# Altium integrated library STMicroelectronics STM32W.IntLib: 11 symbols
Pins are listed as number, name and electrical type; pins without a type are passive.

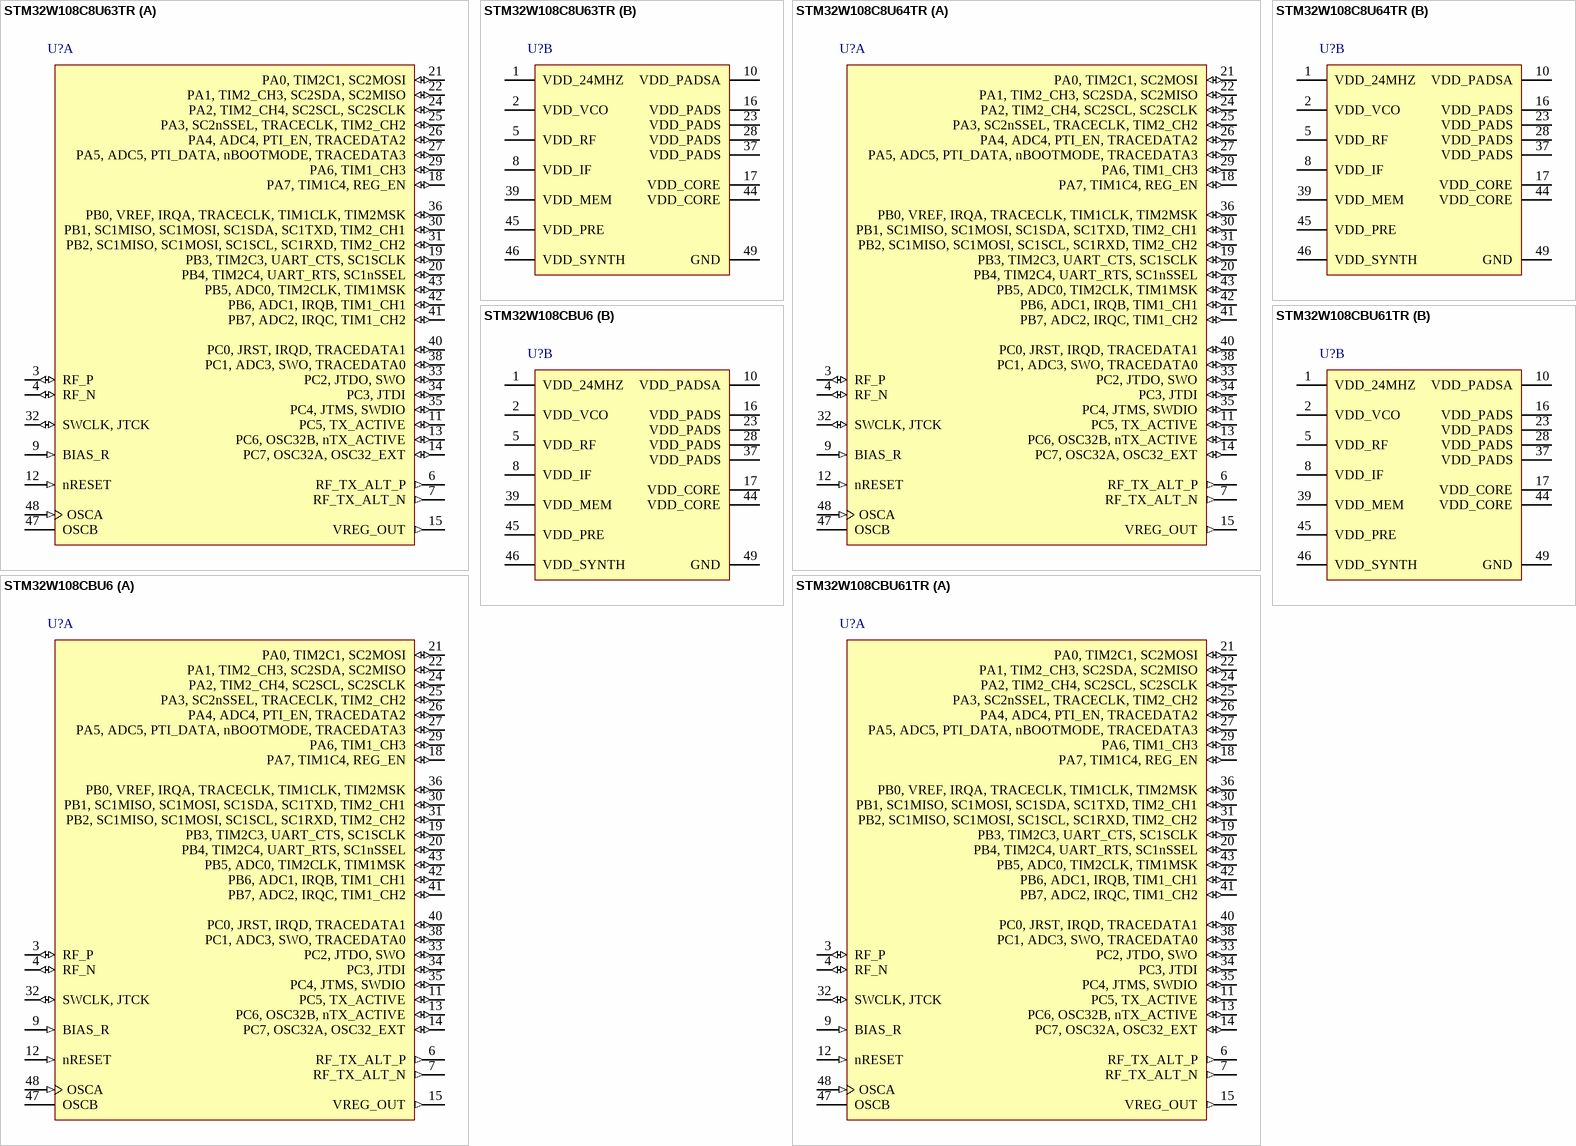
[diagram p0: symbols STM32W108C8U63TR to STM32W108CBU61TR]

## STM32W108C8U63TR
designator U?
STM32W ARM-based 32-bit RF MCU with RF4CE stack, 64 kB Flash, 8 kB Internal RAM, -40 to +85°C Temperature, 48-pin QFN, Tape and Reel; DatasheetVersion: rev1, May-2011; PackageVersion: 2011; PackageReference: VFQFPN48; PackageDescription: 48-Pin Quad Flat No-Lead, 7 x 7 x 0.9 mm Body, 0.5 mm Pitch, Exposed Pad; ComponentLink1Description: Manufacturer URL; ComponentLink1URL: http://www.st.com/; ComponentLink2Description: STM32W108C8 Datasheet; ComponentLink2URL: http://www.st.com/internet/com/TECHNICAL_RESOURCES/TECHNICAL_LITERATURE/DATASHEET/DM00024653.pdf; ComponentLink3Description: STM32W Web Page; ComponentLink3URL: http://www.st.com/internet/mcu/subclass/1377.jsp
footprint VFQFPN48_N (Manufacturer "STMicroelectronics" not found)
footprint VFQFPN48_L (QFN, 48-Leads, Body 7x7mm, Pitch 0.5mm, Thermal Pad 5.3x5.3mm, IPC High Density)
footprint VFQFPN48_M (QFN, 48-Leads, Body 7x7mm, Pitch 0.5mm, Thermal Pad 5.3x5.3mm, IPC Low Density)
part A pins: 3 RF_P (io), 4 RF_N (io), 6 RF_TX_ALT_P (out), 7 RF_TX_ALT_N (out), 9 BIAS_R (in), 11 PC5, TX_ACTIVE (io), 12 nRESET (in), 13 PC6, OSC32B, nTX_ACTIVE (io), 14 PC7, OSC32A, OSC32_EXT (io), 15 VREG_OUT (out), 18 PA7, TIM1C4, REG_EN (io), 19 PB3, TIM2C3, UART_CTS, SC1SCLK (io), 20 PB4, TIM2C4, UART_RTS, SC1nSSEL (io), 21 PA0, TIM2C1, SC2MOSI (io), 22 PA1, TIM2_CH3, SC2SDA, SC2MISO (io), 24 PA2, TIM2_CH4, SC2SCL, SC2SCLK (io), 25 PA3, SC2nSSEL, TRACECLK, TIM2_CH2 (io), 26 PA4, ADC4, PTI_EN, TRACEDATA2 (io), 27 PA5, ADC5, PTI_DATA, nBOOTMODE, TRACEDATA3 (io), 29 PA6, TIM1_CH3 (io), 30 PB1, SC1MISO, SC1MOSI, SC1SDA, SC1TXD, TIM2_CH1 (io), 31 PB2, SC1MISO, SC1MOSI, SC1SCL, SC1RXD, TIM2_CH2 (io), 32 SWCLK, JTCK (io), 33 PC2, JTDO, SWO (io), 34 PC3, JTDI (io), 35 PC4, JTMS, SWDIO (io), 36 PB0, VREF, IRQA, TRACECLK, TIM1CLK, TIM2MSK (io), 38 PC1, ADC3, SWO, TRACEDATA0 (io), 40 PC0, JRST, IRQD, TRACEDATA1 (io), 41 PB7, ADC2, IRQC, TIM1_CH2 (io), 42 PB6, ADC1, IRQB, TIM1_CH1 (io), 43 PB5, ADC0, TIM2CLK, TIM1MSK (io), 47 OSCB, 48 OSCA (in)
part B pins: 1 VDD_24MHZ (power), 2 VDD_VCO (power), 5 VDD_RF (power), 8 VDD_IF (power), 10 VDD_PADSA (power), 16 VDD_PADS (power), 17 VDD_CORE (power), 23 VDD_PADS (power), 28 VDD_PADS (power), 37 VDD_PADS (power), 39 VDD_MEM (power), 44 VDD_CORE (power), 45 VDD_PRE (power), 46 VDD_SYNTH (power), 49 GND (power)

## STM32W108C8U64TR
designator U?
STM32W ARM-based 32-bit RF MCU with IEEE 802.15.4 media access control, 64 kB Flash, 8 kB Internal RAM, -40 to +85°C Temperature, 48-pin QFN, Tape and Reel; DatasheetVersion: rev1, May-2011; PackageVersion: 2011; PackageReference: VFQFPN48; PackageDescription: 48-Pin Quad Flat No-Lead, 7 x 7 x 0.9 mm Body, 0.5 mm Pitch, Exposed Pad; ComponentLink1Description: Manufacturer URL; ComponentLink1URL: http://www.st.com/; ComponentLink2Description: STM32W108C8 Datasheet; ComponentLink2URL: http://www.st.com/internet/com/TECHNICAL_RESOURCES/TECHNICAL_LITERATURE/DATASHEET/DM00024653.pdf; ComponentLink3Description: STM32W Web Page; ComponentLink3URL: http://www.st.com/internet/mcu/subclass/1377.jsp
footprint VFQFPN48_N (Manufacturer "STMicroelectronics" not found)
footprint VFQFPN48_L (QFN, 48-Leads, Body 7x7mm, Pitch 0.5mm, Thermal Pad 5.3x5.3mm, IPC High Density)
footprint VFQFPN48_M (QFN, 48-Leads, Body 7x7mm, Pitch 0.5mm, Thermal Pad 5.3x5.3mm, IPC Low Density)
part A pins: 3 RF_P (io), 4 RF_N (io), 6 RF_TX_ALT_P (out), 7 RF_TX_ALT_N (out), 9 BIAS_R (in), 11 PC5, TX_ACTIVE (io), 12 nRESET (in), 13 PC6, OSC32B, nTX_ACTIVE (io), 14 PC7, OSC32A, OSC32_EXT (io), 15 VREG_OUT (out), 18 PA7, TIM1C4, REG_EN (io), 19 PB3, TIM2C3, UART_CTS, SC1SCLK (io), 20 PB4, TIM2C4, UART_RTS, SC1nSSEL (io), 21 PA0, TIM2C1, SC2MOSI (io), 22 PA1, TIM2_CH3, SC2SDA, SC2MISO (io), 24 PA2, TIM2_CH4, SC2SCL, SC2SCLK (io), 25 PA3, SC2nSSEL, TRACECLK, TIM2_CH2 (io), 26 PA4, ADC4, PTI_EN, TRACEDATA2 (io), 27 PA5, ADC5, PTI_DATA, nBOOTMODE, TRACEDATA3 (io), 29 PA6, TIM1_CH3 (io), 30 PB1, SC1MISO, SC1MOSI, SC1SDA, SC1TXD, TIM2_CH1 (io), 31 PB2, SC1MISO, SC1MOSI, SC1SCL, SC1RXD, TIM2_CH2 (io), 32 SWCLK, JTCK (io), 33 PC2, JTDO, SWO (io), 34 PC3, JTDI (io), 35 PC4, JTMS, SWDIO (io), 36 PB0, VREF, IRQA, TRACECLK, TIM1CLK, TIM2MSK (io), 38 PC1, ADC3, SWO, TRACEDATA0 (io), 40 PC0, JRST, IRQD, TRACEDATA1 (io), 41 PB7, ADC2, IRQC, TIM1_CH2 (io), 42 PB6, ADC1, IRQB, TIM1_CH1 (io), 43 PB5, ADC0, TIM2CLK, TIM1MSK (io), 47 OSCB, 48 OSCA (in)
part B pins: 1 VDD_24MHZ (power), 2 VDD_VCO (power), 5 VDD_RF (power), 8 VDD_IF (power), 10 VDD_PADSA (power), 16 VDD_PADS (power), 17 VDD_CORE (power), 23 VDD_PADS (power), 28 VDD_PADS (power), 37 VDD_PADS (power), 39 VDD_MEM (power), 44 VDD_CORE (power), 45 VDD_PRE (power), 46 VDD_SYNTH (power), 49 GND (power)

## STM32W108CBU6
designator U?
STM32W ARM-based 32-bit RF MCU with 128 kB Flash, 8 kB Internal RAM, -40 to +85°C Temperature, 48-pin QFN, Tray; DatasheetVersion: rev8, Apr-2011; PackageVersion: 2011; PackageReference: VFQFPN48; PackageDescription: 48-Pin Quad Flat No-Lead, 7 x 7 x 0.9 mm Body, 0.5 mm Pitch, Exposed Pad; ComponentLink1Description: Manufacturer URL; ComponentLink1URL: http://www.st.com/; ComponentLink2Description: STM32W108xx Datasheet; ComponentLink2URL: http://www.st.com/internet/com/TECHNICAL_RESOURCES/TECHNICAL_LITERATURE/DATASHEET/CD00248316.pdf; ComponentLink3Description: STM32W Web Page; ComponentLink3URL: http://www.st.com/internet/mcu/subclass/1377.jsp
footprint VFQFPN48_N (Manufacturer "STMicroelectronics" not found)
footprint VFQFPN48_L (QFN, 48-Leads, Body 7x7mm, Pitch 0.5mm, Thermal Pad 5.3x5.3mm, IPC High Density)
footprint VFQFPN48_M (QFN, 48-Leads, Body 7x7mm, Pitch 0.5mm, Thermal Pad 5.3x5.3mm, IPC Low Density)
part A pins: 3 RF_P (io), 4 RF_N (io), 6 RF_TX_ALT_P (out), 7 RF_TX_ALT_N (out), 9 BIAS_R (in), 11 PC5, TX_ACTIVE (io), 12 nRESET (in), 13 PC6, OSC32B, nTX_ACTIVE (io), 14 PC7, OSC32A, OSC32_EXT (io), 15 VREG_OUT (out), 18 PA7, TIM1C4, REG_EN (io), 19 PB3, TIM2C3, UART_CTS, SC1SCLK (io), 20 PB4, TIM2C4, UART_RTS, SC1nSSEL (io), 21 PA0, TIM2C1, SC2MOSI (io), 22 PA1, TIM2_CH3, SC2SDA, SC2MISO (io), 24 PA2, TIM2_CH4, SC2SCL, SC2SCLK (io), 25 PA3, SC2nSSEL, TRACECLK, TIM2_CH2 (io), 26 PA4, ADC4, PTI_EN, TRACEDATA2 (io), 27 PA5, ADC5, PTI_DATA, nBOOTMODE, TRACEDATA3 (io), 29 PA6, TIM1_CH3 (io), 30 PB1, SC1MISO, SC1MOSI, SC1SDA, SC1TXD, TIM2_CH1 (io), 31 PB2, SC1MISO, SC1MOSI, SC1SCL, SC1RXD, TIM2_CH2 (io), 32 SWCLK, JTCK (io), 33 PC2, JTDO, SWO (io), 34 PC3, JTDI (io), 35 PC4, JTMS, SWDIO (io), 36 PB0, VREF, IRQA, TRACECLK, TIM1CLK, TIM2MSK (io), 38 PC1, ADC3, SWO, TRACEDATA0 (io), 40 PC0, JRST, IRQD, TRACEDATA1 (io), 41 PB7, ADC2, IRQC, TIM1_CH2 (io), 42 PB6, ADC1, IRQB, TIM1_CH1 (io), 43 PB5, ADC0, TIM2CLK, TIM1MSK (io), 47 OSCB, 48 OSCA (in)
part B pins: 1 VDD_24MHZ (power), 2 VDD_VCO (power), 5 VDD_RF (power), 8 VDD_IF (power), 10 VDD_PADSA (power), 16 VDD_PADS (power), 17 VDD_CORE (power), 23 VDD_PADS (power), 28 VDD_PADS (power), 37 VDD_PADS (power), 39 VDD_MEM (power), 44 VDD_CORE (power), 45 VDD_PRE (power), 46 VDD_SYNTH (power), 49 GND (power)

## STM32W108CBU61TR
designator U?
STM32W ARM-based 32-bit RF MCU with Ember ZigBee stack, 128 kB Flash, 8 kB Internal RAM, -40 to +85°C Temperature, 48-pin QFN, Tape and Reel; DatasheetVersion: rev8, Apr-2011; PackageVersion: 2011; PackageReference: VFQFPN48; PackageDescription: 48-Pin Quad Flat No-Lead, 7 x 7 x 0.9 mm Body, 0.5 mm Pitch, Exposed Pad; ComponentLink1Description: Manufacturer URL; ComponentLink1URL: http://www.st.com/; ComponentLink2Description: STM32W108xx Datasheet; ComponentLink2URL: http://www.st.com/internet/com/TECHNICAL_RESOURCES/TECHNICAL_LITERATURE/DATASHEET/CD00248316.pdf; ComponentLink3Description: STM32W Web Page; ComponentLink3URL: http://www.st.com/internet/mcu/subclass/1377.jsp
footprint VFQFPN48_N (Manufacturer "STMicroelectronics" not found)
footprint VFQFPN48_L (QFN, 48-Leads, Body 7x7mm, Pitch 0.5mm, Thermal Pad 5.3x5.3mm, IPC High Density)
footprint VFQFPN48_M (QFN, 48-Leads, Body 7x7mm, Pitch 0.5mm, Thermal Pad 5.3x5.3mm, IPC Low Density)
part A pins: 3 RF_P (io), 4 RF_N (io), 6 RF_TX_ALT_P (out), 7 RF_TX_ALT_N (out), 9 BIAS_R (in), 11 PC5, TX_ACTIVE (io), 12 nRESET (in), 13 PC6, OSC32B, nTX_ACTIVE (io), 14 PC7, OSC32A, OSC32_EXT (io), 15 VREG_OUT (out), 18 PA7, TIM1C4, REG_EN (io), 19 PB3, TIM2C3, UART_CTS, SC1SCLK (io), 20 PB4, TIM2C4, UART_RTS, SC1nSSEL (io), 21 PA0, TIM2C1, SC2MOSI (io), 22 PA1, TIM2_CH3, SC2SDA, SC2MISO (io), 24 PA2, TIM2_CH4, SC2SCL, SC2SCLK (io), 25 PA3, SC2nSSEL, TRACECLK, TIM2_CH2 (io), 26 PA4, ADC4, PTI_EN, TRACEDATA2 (io), 27 PA5, ADC5, PTI_DATA, nBOOTMODE, TRACEDATA3 (io), 29 PA6, TIM1_CH3 (io), 30 PB1, SC1MISO, SC1MOSI, SC1SDA, SC1TXD, TIM2_CH1 (io), 31 PB2, SC1MISO, SC1MOSI, SC1SCL, SC1RXD, TIM2_CH2 (io), 32 SWCLK, JTCK (io), 33 PC2, JTDO, SWO (io), 34 PC3, JTDI (io), 35 PC4, JTMS, SWDIO (io), 36 PB0, VREF, IRQA, TRACECLK, TIM1CLK, TIM2MSK (io), 38 PC1, ADC3, SWO, TRACEDATA0 (io), 40 PC0, JRST, IRQD, TRACEDATA1 (io), 41 PB7, ADC2, IRQC, TIM1_CH2 (io), 42 PB6, ADC1, IRQB, TIM1_CH1 (io), 43 PB5, ADC0, TIM2CLK, TIM1MSK (io), 47 OSCB, 48 OSCA (in)
part B pins: 1 VDD_24MHZ (power), 2 VDD_VCO (power), 5 VDD_RF (power), 8 VDD_IF (power), 10 VDD_PADSA (power), 16 VDD_PADS (power), 17 VDD_CORE (power), 23 VDD_PADS (power), 28 VDD_PADS (power), 37 VDD_PADS (power), 39 VDD_MEM (power), 44 VDD_CORE (power), 45 VDD_PRE (power), 46 VDD_SYNTH (power), 49 GND (power)

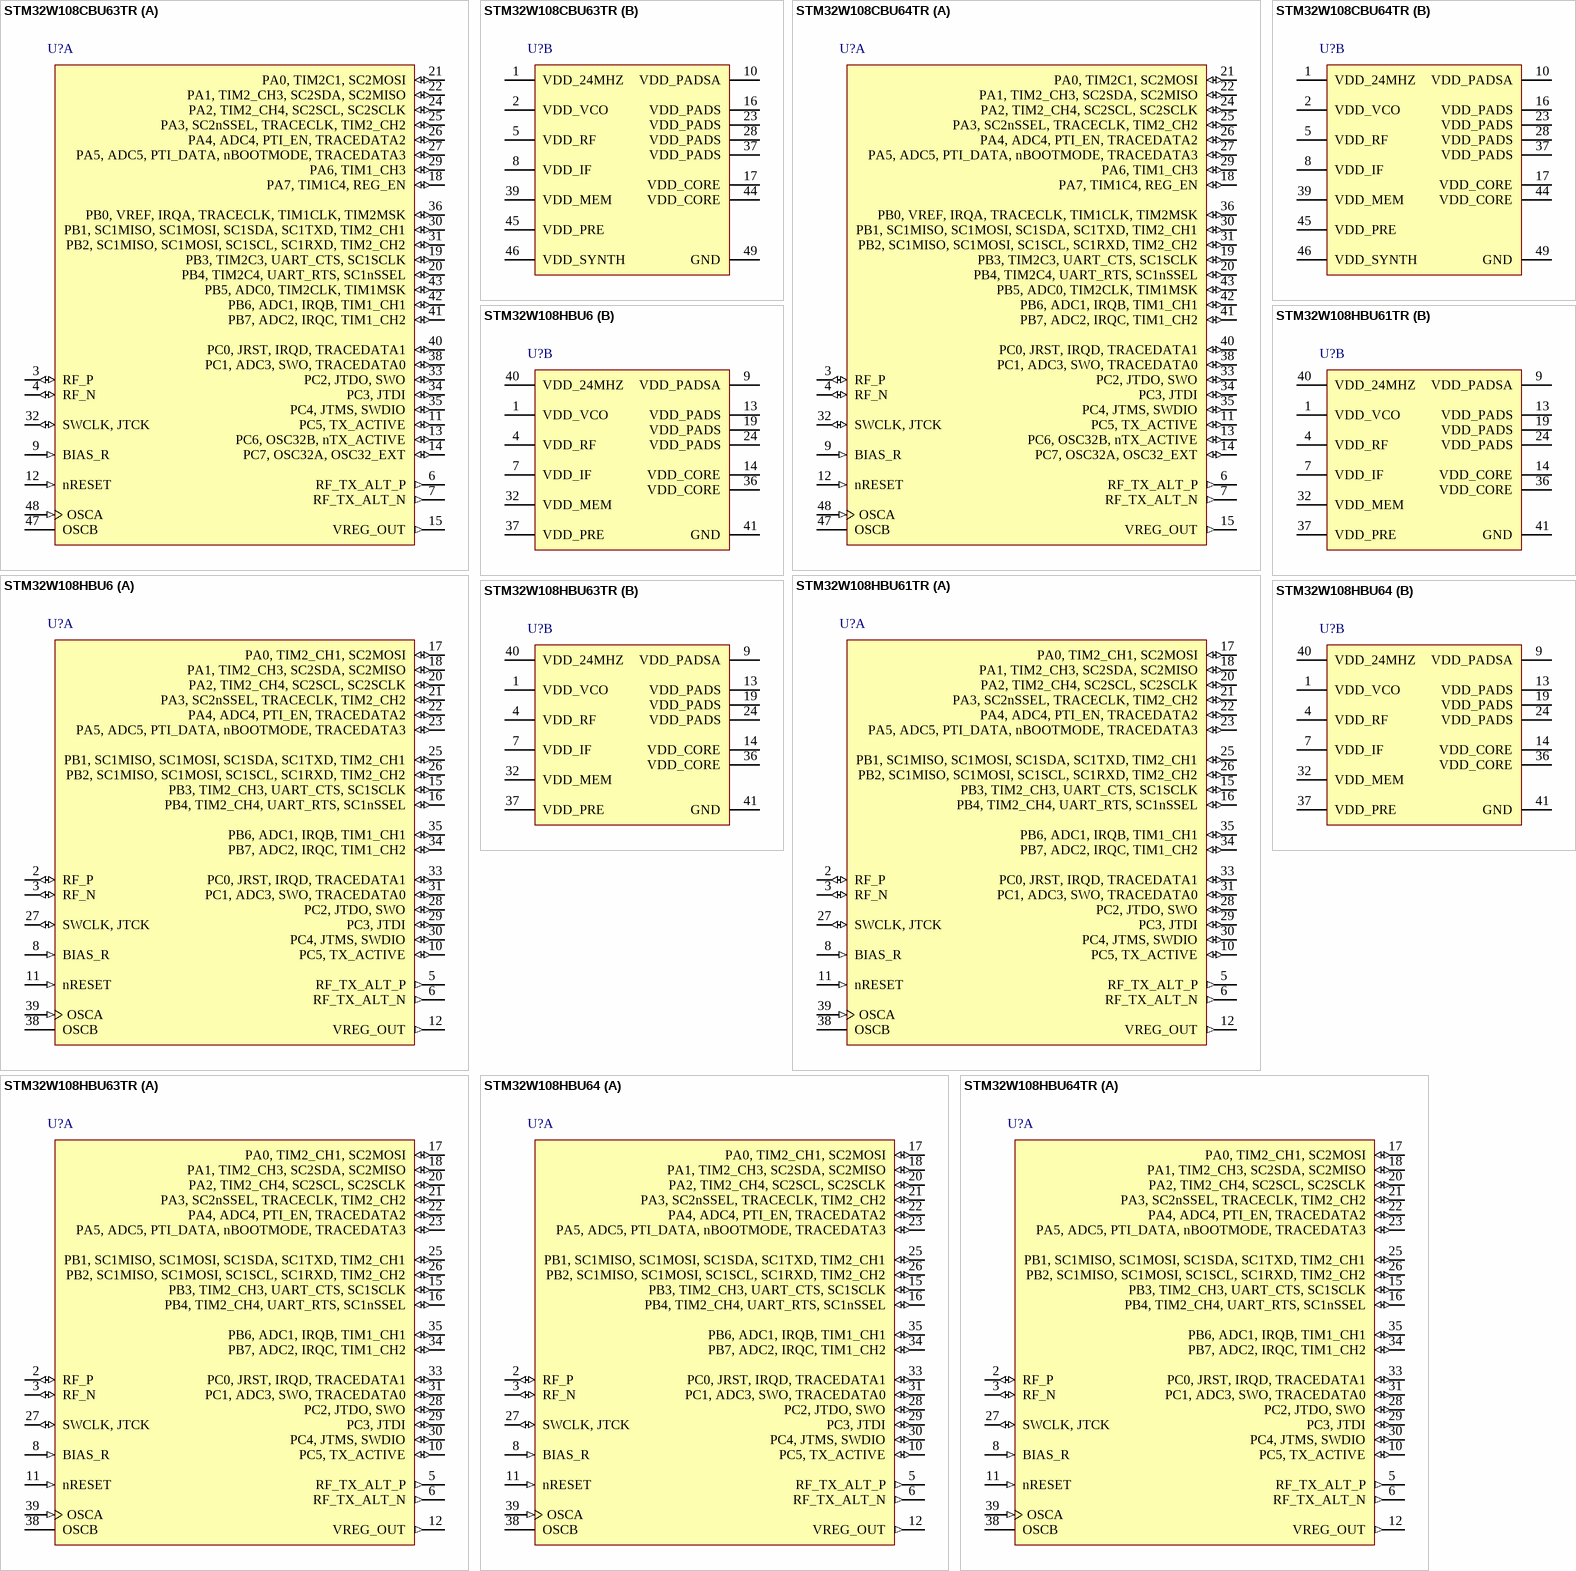
[diagram p1: symbols STM32W108CBU63TR to STM32W108HBU64TR]

## STM32W108CBU63TR
designator U?
STM32W ARM-based 32-bit RF MCU with RF4CE stack, 128 kB Flash, 8 kB Internal RAM, -40 to +85°C Temperature, 48-pin QFN, Tape and Reel; DatasheetVersion: rev8, Apr-2011; PackageVersion: 2011; PackageReference: VFQFPN48; PackageDescription: 48-Pin Quad Flat No-Lead, 7 x 7 x 0.9 mm Body, 0.5 mm Pitch, Exposed Pad; ComponentLink1Description: Manufacturer URL; ComponentLink1URL: http://www.st.com/; ComponentLink2Description: STM32W108xx Datasheet; ComponentLink2URL: http://www.st.com/internet/com/TECHNICAL_RESOURCES/TECHNICAL_LITERATURE/DATASHEET/CD00248316.pdf; ComponentLink3Description: STM32W Web Page; ComponentLink3URL: http://www.st.com/internet/mcu/subclass/1377.jsp
footprint VFQFPN48_N (Manufacturer "STMicroelectronics" not found)
footprint VFQFPN48_L (QFN, 48-Leads, Body 7x7mm, Pitch 0.5mm, Thermal Pad 5.3x5.3mm, IPC High Density)
footprint VFQFPN48_M (QFN, 48-Leads, Body 7x7mm, Pitch 0.5mm, Thermal Pad 5.3x5.3mm, IPC Low Density)
part A pins: 3 RF_P (io), 4 RF_N (io), 6 RF_TX_ALT_P (out), 7 RF_TX_ALT_N (out), 9 BIAS_R (in), 11 PC5, TX_ACTIVE (io), 12 nRESET (in), 13 PC6, OSC32B, nTX_ACTIVE (io), 14 PC7, OSC32A, OSC32_EXT (io), 15 VREG_OUT (out), 18 PA7, TIM1C4, REG_EN (io), 19 PB3, TIM2C3, UART_CTS, SC1SCLK (io), 20 PB4, TIM2C4, UART_RTS, SC1nSSEL (io), 21 PA0, TIM2C1, SC2MOSI (io), 22 PA1, TIM2_CH3, SC2SDA, SC2MISO (io), 24 PA2, TIM2_CH4, SC2SCL, SC2SCLK (io), 25 PA3, SC2nSSEL, TRACECLK, TIM2_CH2 (io), 26 PA4, ADC4, PTI_EN, TRACEDATA2 (io), 27 PA5, ADC5, PTI_DATA, nBOOTMODE, TRACEDATA3 (io), 29 PA6, TIM1_CH3 (io), 30 PB1, SC1MISO, SC1MOSI, SC1SDA, SC1TXD, TIM2_CH1 (io), 31 PB2, SC1MISO, SC1MOSI, SC1SCL, SC1RXD, TIM2_CH2 (io), 32 SWCLK, JTCK (io), 33 PC2, JTDO, SWO (io), 34 PC3, JTDI (io), 35 PC4, JTMS, SWDIO (io), 36 PB0, VREF, IRQA, TRACECLK, TIM1CLK, TIM2MSK (io), 38 PC1, ADC3, SWO, TRACEDATA0 (io), 40 PC0, JRST, IRQD, TRACEDATA1 (io), 41 PB7, ADC2, IRQC, TIM1_CH2 (io), 42 PB6, ADC1, IRQB, TIM1_CH1 (io), 43 PB5, ADC0, TIM2CLK, TIM1MSK (io), 47 OSCB, 48 OSCA (in)
part B pins: 1 VDD_24MHZ (power), 2 VDD_VCO (power), 5 VDD_RF (power), 8 VDD_IF (power), 10 VDD_PADSA (power), 16 VDD_PADS (power), 17 VDD_CORE (power), 23 VDD_PADS (power), 28 VDD_PADS (power), 37 VDD_PADS (power), 39 VDD_MEM (power), 44 VDD_CORE (power), 45 VDD_PRE (power), 46 VDD_SYNTH (power), 49 GND (power)

## STM32W108CBU64TR
designator U?
STM32W ARM-based 32-bit RF MCU with IEEE 802.15.4 media access control, 128 kB Flash, 8 kB Internal RAM, -40 to +85°C Temperature, 48-pin QFN, Tape and Reel; DatasheetVersion: rev8, Apr-2011; PackageVersion: 2011; PackageReference: VFQFPN48; PackageDescription: 48-Pin Quad Flat No-Lead, 7 x 7 x 0.9 mm Body, 0.5 mm Pitch, Exposed Pad; ComponentLink1Description: Manufacturer URL; ComponentLink1URL: http://www.st.com/; ComponentLink2Description: STM32W108xx Datasheet; ComponentLink2URL: http://www.st.com/internet/com/TECHNICAL_RESOURCES/TECHNICAL_LITERATURE/DATASHEET/CD00248316.pdf; ComponentLink3Description: STM32W Web Page; ComponentLink3URL: http://www.st.com/internet/mcu/subclass/1377.jsp
footprint VFQFPN48_N (Manufacturer "STMicroelectronics" not found)
footprint VFQFPN48_L (QFN, 48-Leads, Body 7x7mm, Pitch 0.5mm, Thermal Pad 5.3x5.3mm, IPC High Density)
footprint VFQFPN48_M (QFN, 48-Leads, Body 7x7mm, Pitch 0.5mm, Thermal Pad 5.3x5.3mm, IPC Low Density)
part A pins: 3 RF_P (io), 4 RF_N (io), 6 RF_TX_ALT_P (out), 7 RF_TX_ALT_N (out), 9 BIAS_R (in), 11 PC5, TX_ACTIVE (io), 12 nRESET (in), 13 PC6, OSC32B, nTX_ACTIVE (io), 14 PC7, OSC32A, OSC32_EXT (io), 15 VREG_OUT (out), 18 PA7, TIM1C4, REG_EN (io), 19 PB3, TIM2C3, UART_CTS, SC1SCLK (io), 20 PB4, TIM2C4, UART_RTS, SC1nSSEL (io), 21 PA0, TIM2C1, SC2MOSI (io), 22 PA1, TIM2_CH3, SC2SDA, SC2MISO (io), 24 PA2, TIM2_CH4, SC2SCL, SC2SCLK (io), 25 PA3, SC2nSSEL, TRACECLK, TIM2_CH2 (io), 26 PA4, ADC4, PTI_EN, TRACEDATA2 (io), 27 PA5, ADC5, PTI_DATA, nBOOTMODE, TRACEDATA3 (io), 29 PA6, TIM1_CH3 (io), 30 PB1, SC1MISO, SC1MOSI, SC1SDA, SC1TXD, TIM2_CH1 (io), 31 PB2, SC1MISO, SC1MOSI, SC1SCL, SC1RXD, TIM2_CH2 (io), 32 SWCLK, JTCK (io), 33 PC2, JTDO, SWO (io), 34 PC3, JTDI (io), 35 PC4, JTMS, SWDIO (io), 36 PB0, VREF, IRQA, TRACECLK, TIM1CLK, TIM2MSK (io), 38 PC1, ADC3, SWO, TRACEDATA0 (io), 40 PC0, JRST, IRQD, TRACEDATA1 (io), 41 PB7, ADC2, IRQC, TIM1_CH2 (io), 42 PB6, ADC1, IRQB, TIM1_CH1 (io), 43 PB5, ADC0, TIM2CLK, TIM1MSK (io), 47 OSCB, 48 OSCA (in)
part B pins: 1 VDD_24MHZ (power), 2 VDD_VCO (power), 5 VDD_RF (power), 8 VDD_IF (power), 10 VDD_PADSA (power), 16 VDD_PADS (power), 17 VDD_CORE (power), 23 VDD_PADS (power), 28 VDD_PADS (power), 37 VDD_PADS (power), 39 VDD_MEM (power), 44 VDD_CORE (power), 45 VDD_PRE (power), 46 VDD_SYNTH (power), 49 GND (power)

## STM32W108HBU6
designator U?
STM32W ARM-based 32-bit RF MCU with 128 kB Flash, 8 kB Internal RAM, -40 to +85°C Temperature, 40-pin QFN, Tray; DatasheetVersion: rev8, Apr-2011; PackageVersion: 2011; PackageReference: VFQFPN40; PackageDescription: 36-Pin Quad Flat No-Lead, 6 x 6 X 1.0 mm Body, 0.5 mm Pitch, Exposed Pad; ComponentLink1Description: Manufacturer URL; ComponentLink1URL: http://www.st.com/; ComponentLink2Description: STM32W108xx Datasheet; ComponentLink2URL: http://www.st.com/internet/com/TECHNICAL_RESOURCES/TECHNICAL_LITERATURE/DATASHEET/CD00248316.pdf; ComponentLink3Description: STM32W Web Page; ComponentLink3URL: http://www.st.com/internet/mcu/subclass/1377.jsp
footprint VFQFPN40_N (Manufacturer "STMicroelectronics" not found)
footprint VFQFPN40_L (QFN, 40-Leads, Body 6x6mm, Pitch 0.5mm, Thermal Pad 4.7x4.7mm, IPC High Density)
footprint VFQFPN40_M (QFN, 40-Leads, Body 6x6mm, Pitch 0.5mm, Thermal Pad 4.7x4.7mm, IPC Low Density)
part A pins: 2 RF_P (io), 3 RF_N (io), 5 RF_TX_ALT_P (out), 6 RF_TX_ALT_N (out), 8 BIAS_R (in), 10 PC5, TX_ACTIVE (io), 11 nRESET (in), 12 VREG_OUT (out), 15 PB3, TIM2_CH3, UART_CTS, SC1SCLK (io), 16 PB4, TIM2_CH4, UART_RTS, SC1nSSEL (io), 17 PA0, TIM2_CH1, SC2MOSI (io), 18 PA1, TIM2_CH3, SC2SDA, SC2MISO (io), 20 PA2, TIM2_CH4, SC2SCL, SC2SCLK (io), 21 PA3, SC2nSSEL, TRACECLK, TIM2_CH2 (io), 22 PA4, ADC4, PTI_EN, TRACEDATA2 (io), 23 PA5, ADC5, PTI_DATA, nBOOTMODE, TRACEDATA3 (io), 25 PB1, SC1MISO, SC1MOSI, SC1SDA, SC1TXD, TIM2_CH1 (io), 26 PB2, SC1MISO, SC1MOSI, SC1SCL, SC1RXD, TIM2_CH2 (io), 27 SWCLK, JTCK (io), 28 PC2, JTDO, SWO (io), 29 PC3, JTDI (io), 30 PC4, JTMS, SWDIO (io), 31 PC1, ADC3, SWO, TRACEDATA0 (io), 33 PC0, JRST, IRQD, TRACEDATA1 (io), 34 PB7, ADC2, IRQC, TIM1_CH2 (io), 35 PB6, ADC1, IRQB, TIM1_CH1 (io), 38 OSCB, 39 OSCA (in)
part B pins: 1 VDD_VCO (power), 4 VDD_RF (power), 7 VDD_IF (power), 9 VDD_PADSA (power), 13 VDD_PADS (power), 14 VDD_CORE (power), 19 VDD_PADS (power), 24 VDD_PADS (power), 32 VDD_MEM (power), 36 VDD_CORE (power), 37 VDD_PRE (power), 40 VDD_24MHZ (power), 41 GND (power)

## STM32W108HBU61TR
designator U?
STM32W ARM-based 32-bit RF MCU with Ember ZigBee stack, 128 kB Flash, 8 kB Internal RAM, -40 to +85°C Temperature, 40-pin QFN, Tape and Reel; DatasheetVersion: rev8, Apr-2011; PackageVersion: 2011; PackageReference: VFQFPN40; PackageDescription: 36-Pin Quad Flat No-Lead, 6 x 6 X 1.0 mm Body, 0.5 mm Pitch, Exposed Pad; ComponentLink1Description: Manufacturer URL; ComponentLink1URL: http://www.st.com/; ComponentLink2Description: STM32W108xx Datasheet; ComponentLink2URL: http://www.st.com/internet/com/TECHNICAL_RESOURCES/TECHNICAL_LITERATURE/DATASHEET/CD00248316.pdf; ComponentLink3Description: STM32W Web Page; ComponentLink3URL: http://www.st.com/internet/mcu/subclass/1377.jsp
footprint VFQFPN40_N (Manufacturer "STMicroelectronics" not found)
footprint VFQFPN40_L (QFN, 40-Leads, Body 6x6mm, Pitch 0.5mm, Thermal Pad 4.7x4.7mm, IPC High Density)
footprint VFQFPN40_M (QFN, 40-Leads, Body 6x6mm, Pitch 0.5mm, Thermal Pad 4.7x4.7mm, IPC Low Density)
part A pins: 2 RF_P (io), 3 RF_N (io), 5 RF_TX_ALT_P (out), 6 RF_TX_ALT_N (out), 8 BIAS_R (in), 10 PC5, TX_ACTIVE (io), 11 nRESET (in), 12 VREG_OUT (out), 15 PB3, TIM2_CH3, UART_CTS, SC1SCLK (io), 16 PB4, TIM2_CH4, UART_RTS, SC1nSSEL (io), 17 PA0, TIM2_CH1, SC2MOSI (io), 18 PA1, TIM2_CH3, SC2SDA, SC2MISO (io), 20 PA2, TIM2_CH4, SC2SCL, SC2SCLK (io), 21 PA3, SC2nSSEL, TRACECLK, TIM2_CH2 (io), 22 PA4, ADC4, PTI_EN, TRACEDATA2 (io), 23 PA5, ADC5, PTI_DATA, nBOOTMODE, TRACEDATA3 (io), 25 PB1, SC1MISO, SC1MOSI, SC1SDA, SC1TXD, TIM2_CH1 (io), 26 PB2, SC1MISO, SC1MOSI, SC1SCL, SC1RXD, TIM2_CH2 (io), 27 SWCLK, JTCK (io), 28 PC2, JTDO, SWO (io), 29 PC3, JTDI (io), 30 PC4, JTMS, SWDIO (io), 31 PC1, ADC3, SWO, TRACEDATA0 (io), 33 PC0, JRST, IRQD, TRACEDATA1 (io), 34 PB7, ADC2, IRQC, TIM1_CH2 (io), 35 PB6, ADC1, IRQB, TIM1_CH1 (io), 38 OSCB, 39 OSCA (in)
part B pins: 1 VDD_VCO (power), 4 VDD_RF (power), 7 VDD_IF (power), 9 VDD_PADSA (power), 13 VDD_PADS (power), 14 VDD_CORE (power), 19 VDD_PADS (power), 24 VDD_PADS (power), 32 VDD_MEM (power), 36 VDD_CORE (power), 37 VDD_PRE (power), 40 VDD_24MHZ (power), 41 GND (power)

## STM32W108HBU63TR
designator U?
STM32W ARM-based 32-bit RF MCU with RF4CE stack, 128 kB Flash, 8 kB Internal RAM, -40 to +85°C Temperature, 40-pin QFN, Tape and Reel; DatasheetVersion: rev8, Apr-2011; PackageVersion: 2011; PackageReference: VFQFPN40; PackageDescription: 36-Pin Quad Flat No-Lead, 6 x 6 X 1.0 mm Body, 0.5 mm Pitch, Exposed Pad; ComponentLink1Description: Manufacturer URL; ComponentLink1URL: http://www.st.com/; ComponentLink2Description: STM32W108xx Datasheet; ComponentLink2URL: http://www.st.com/internet/com/TECHNICAL_RESOURCES/TECHNICAL_LITERATURE/DATASHEET/CD00248316.pdf; ComponentLink3Description: STM32W Web Page; ComponentLink3URL: http://www.st.com/internet/mcu/subclass/1377.jsp
footprint VFQFPN40_N (Manufacturer "STMicroelectronics" not found)
footprint VFQFPN40_L (QFN, 40-Leads, Body 6x6mm, Pitch 0.5mm, Thermal Pad 4.7x4.7mm, IPC High Density)
footprint VFQFPN40_M (QFN, 40-Leads, Body 6x6mm, Pitch 0.5mm, Thermal Pad 4.7x4.7mm, IPC Low Density)
part A pins: 2 RF_P (io), 3 RF_N (io), 5 RF_TX_ALT_P (out), 6 RF_TX_ALT_N (out), 8 BIAS_R (in), 10 PC5, TX_ACTIVE (io), 11 nRESET (in), 12 VREG_OUT (out), 15 PB3, TIM2_CH3, UART_CTS, SC1SCLK (io), 16 PB4, TIM2_CH4, UART_RTS, SC1nSSEL (io), 17 PA0, TIM2_CH1, SC2MOSI (io), 18 PA1, TIM2_CH3, SC2SDA, SC2MISO (io), 20 PA2, TIM2_CH4, SC2SCL, SC2SCLK (io), 21 PA3, SC2nSSEL, TRACECLK, TIM2_CH2 (io), 22 PA4, ADC4, PTI_EN, TRACEDATA2 (io), 23 PA5, ADC5, PTI_DATA, nBOOTMODE, TRACEDATA3 (io), 25 PB1, SC1MISO, SC1MOSI, SC1SDA, SC1TXD, TIM2_CH1 (io), 26 PB2, SC1MISO, SC1MOSI, SC1SCL, SC1RXD, TIM2_CH2 (io), 27 SWCLK, JTCK (io), 28 PC2, JTDO, SWO (io), 29 PC3, JTDI (io), 30 PC4, JTMS, SWDIO (io), 31 PC1, ADC3, SWO, TRACEDATA0 (io), 33 PC0, JRST, IRQD, TRACEDATA1 (io), 34 PB7, ADC2, IRQC, TIM1_CH2 (io), 35 PB6, ADC1, IRQB, TIM1_CH1 (io), 38 OSCB, 39 OSCA (in)
part B pins: 1 VDD_VCO (power), 4 VDD_RF (power), 7 VDD_IF (power), 9 VDD_PADSA (power), 13 VDD_PADS (power), 14 VDD_CORE (power), 19 VDD_PADS (power), 24 VDD_PADS (power), 32 VDD_MEM (power), 36 VDD_CORE (power), 37 VDD_PRE (power), 40 VDD_24MHZ (power), 41 GND (power)

## STM32W108HBU64
designator U?
STM32W ARM-based 32-bit RF MCU with IEEE 802.15.4 media access control, 128 kB Flash, 8 kB Internal RAM, -40 to +85°C Temperature, 40-pin QFN, Tray; DatasheetVersion: rev8, Apr-2011; PackageVersion: 2011; PackageReference: VFQFPN40; PackageDescription: 36-Pin Quad Flat No-Lead, 6 x 6 X 1.0 mm Body, 0.5 mm Pitch, Exposed Pad; ComponentLink1Description: Manufacturer URL; ComponentLink1URL: http://www.st.com/; ComponentLink2Description: STM32W108xx Datasheet; ComponentLink2URL: http://www.st.com/internet/com/TECHNICAL_RESOURCES/TECHNICAL_LITERATURE/DATASHEET/CD00248316.pdf; ComponentLink3Description: STM32W Web Page; ComponentLink3URL: http://www.st.com/internet/mcu/subclass/1377.jsp
footprint VFQFPN40_N (Manufacturer "STMicroelectronics" not found)
footprint VFQFPN40_L (QFN, 40-Leads, Body 6x6mm, Pitch 0.5mm, Thermal Pad 4.7x4.7mm, IPC High Density)
footprint VFQFPN40_M (QFN, 40-Leads, Body 6x6mm, Pitch 0.5mm, Thermal Pad 4.7x4.7mm, IPC Low Density)
part A pins: 2 RF_P (io), 3 RF_N (io), 5 RF_TX_ALT_P (out), 6 RF_TX_ALT_N (out), 8 BIAS_R (in), 10 PC5, TX_ACTIVE (io), 11 nRESET (in), 12 VREG_OUT (out), 15 PB3, TIM2_CH3, UART_CTS, SC1SCLK (io), 16 PB4, TIM2_CH4, UART_RTS, SC1nSSEL (io), 17 PA0, TIM2_CH1, SC2MOSI (io), 18 PA1, TIM2_CH3, SC2SDA, SC2MISO (io), 20 PA2, TIM2_CH4, SC2SCL, SC2SCLK (io), 21 PA3, SC2nSSEL, TRACECLK, TIM2_CH2 (io), 22 PA4, ADC4, PTI_EN, TRACEDATA2 (io), 23 PA5, ADC5, PTI_DATA, nBOOTMODE, TRACEDATA3 (io), 25 PB1, SC1MISO, SC1MOSI, SC1SDA, SC1TXD, TIM2_CH1 (io), 26 PB2, SC1MISO, SC1MOSI, SC1SCL, SC1RXD, TIM2_CH2 (io), 27 SWCLK, JTCK (io), 28 PC2, JTDO, SWO (io), 29 PC3, JTDI (io), 30 PC4, JTMS, SWDIO (io), 31 PC1, ADC3, SWO, TRACEDATA0 (io), 33 PC0, JRST, IRQD, TRACEDATA1 (io), 34 PB7, ADC2, IRQC, TIM1_CH2 (io), 35 PB6, ADC1, IRQB, TIM1_CH1 (io), 38 OSCB, 39 OSCA (in)
part B pins: 1 VDD_VCO (power), 4 VDD_RF (power), 7 VDD_IF (power), 9 VDD_PADSA (power), 13 VDD_PADS (power), 14 VDD_CORE (power), 19 VDD_PADS (power), 24 VDD_PADS (power), 32 VDD_MEM (power), 36 VDD_CORE (power), 37 VDD_PRE (power), 40 VDD_24MHZ (power), 41 GND (power)

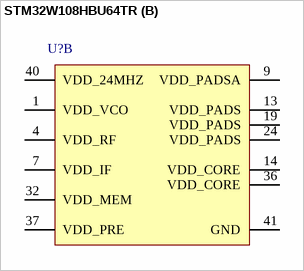
[diagram p2: symbol STM32W108HBU64TR]

## STM32W108HBU64TR
designator U?
STM32W ARM-based 32-bit RF MCU with IEEE 802.15.4 media access control, 128 kB Flash, 8 kB Internal RAM, -40 to +85°C Temperature, 40-pin QFN, Tape and Reel; DatasheetVersion: rev8, Apr-2011; PackageVersion: 2011; PackageReference: VFQFPN40; PackageDescription: 36-Pin Quad Flat No-Lead, 6 x 6 X 1.0 mm Body, 0.5 mm Pitch, Exposed Pad; ComponentLink1Description: Manufacturer URL; ComponentLink1URL: http://www.st.com/; ComponentLink2Description: STM32W108xx Datasheet; ComponentLink2URL: http://www.st.com/internet/com/TECHNICAL_RESOURCES/TECHNICAL_LITERATURE/DATASHEET/CD00248316.pdf; ComponentLink3Description: STM32W Web Page; ComponentLink3URL: http://www.st.com/internet/mcu/subclass/1377.jsp
footprint VFQFPN40_N (Manufacturer "STMicroelectronics" not found)
footprint VFQFPN40_L (QFN, 40-Leads, Body 6x6mm, Pitch 0.5mm, Thermal Pad 4.7x4.7mm, IPC High Density)
footprint VFQFPN40_M (QFN, 40-Leads, Body 6x6mm, Pitch 0.5mm, Thermal Pad 4.7x4.7mm, IPC Low Density)
part A pins: 2 RF_P (io), 3 RF_N (io), 5 RF_TX_ALT_P (out), 6 RF_TX_ALT_N (out), 8 BIAS_R (in), 10 PC5, TX_ACTIVE (io), 11 nRESET (in), 12 VREG_OUT (out), 15 PB3, TIM2_CH3, UART_CTS, SC1SCLK (io), 16 PB4, TIM2_CH4, UART_RTS, SC1nSSEL (io), 17 PA0, TIM2_CH1, SC2MOSI (io), 18 PA1, TIM2_CH3, SC2SDA, SC2MISO (io), 20 PA2, TIM2_CH4, SC2SCL, SC2SCLK (io), 21 PA3, SC2nSSEL, TRACECLK, TIM2_CH2 (io), 22 PA4, ADC4, PTI_EN, TRACEDATA2 (io), 23 PA5, ADC5, PTI_DATA, nBOOTMODE, TRACEDATA3 (io), 25 PB1, SC1MISO, SC1MOSI, SC1SDA, SC1TXD, TIM2_CH1 (io), 26 PB2, SC1MISO, SC1MOSI, SC1SCL, SC1RXD, TIM2_CH2 (io), 27 SWCLK, JTCK (io), 28 PC2, JTDO, SWO (io), 29 PC3, JTDI (io), 30 PC4, JTMS, SWDIO (io), 31 PC1, ADC3, SWO, TRACEDATA0 (io), 33 PC0, JRST, IRQD, TRACEDATA1 (io), 34 PB7, ADC2, IRQC, TIM1_CH2 (io), 35 PB6, ADC1, IRQB, TIM1_CH1 (io), 38 OSCB, 39 OSCA (in)
part B pins: 1 VDD_VCO (power), 4 VDD_RF (power), 7 VDD_IF (power), 9 VDD_PADSA (power), 13 VDD_PADS (power), 14 VDD_CORE (power), 19 VDD_PADS (power), 24 VDD_PADS (power), 32 VDD_MEM (power), 36 VDD_CORE (power), 37 VDD_PRE (power), 40 VDD_24MHZ (power), 41 GND (power)